# Altium footprint library Capacitors SMD.PcbLib: 115 footprints (part 7 of 8)
Each footprint in its own frame and in the unit in brackets; x right, y up, seen from the top. Pads: shape width x height; smd on the part's side, far side on the other; paste and mask are expansions set on the pad; w line width, h text height; cw(c..) or ccw(c..) is an arc to the next point about the centre after c.
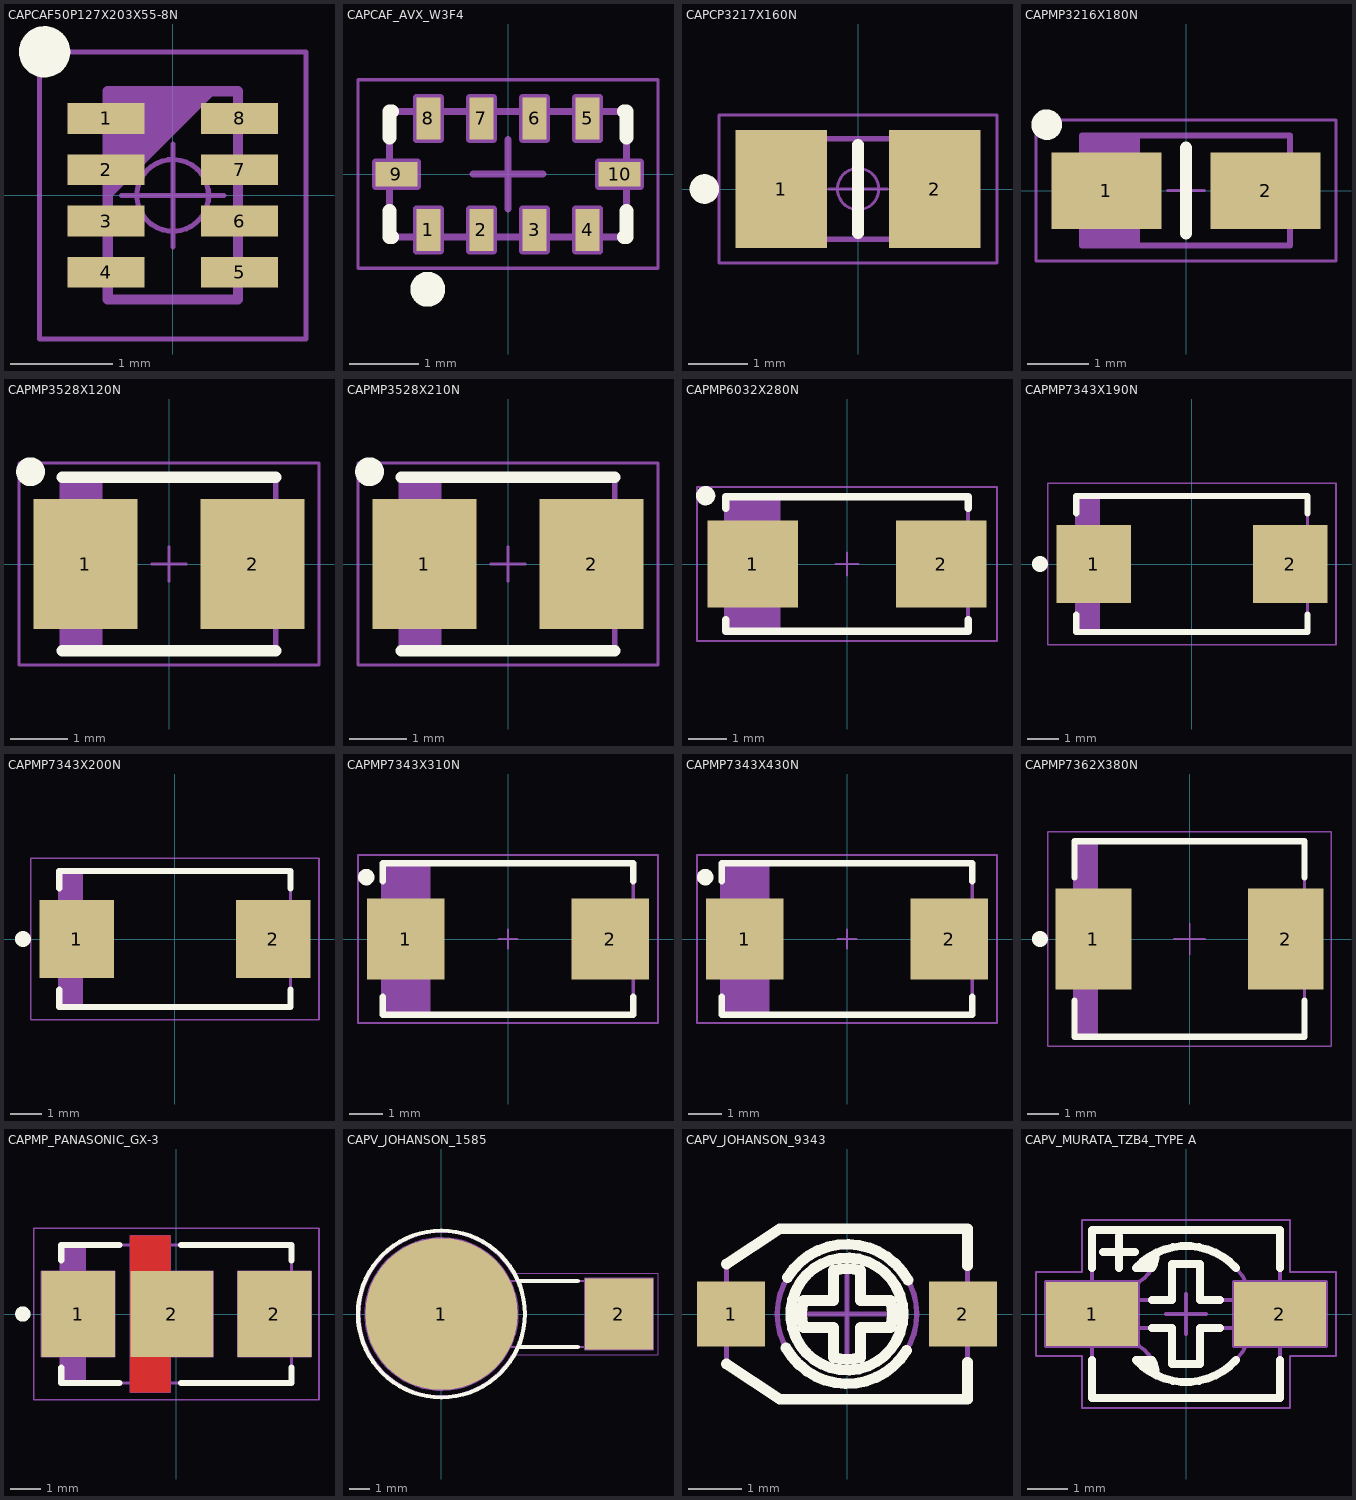
[diagram p6: the footprints below, top view; thin cyan lines are the x and y axes]

## CAPCAF50P127X203X55-8N [mm] "Capacitor, Non-Polarized, Chip Array, 0.50mm Pitch;8 pin,1.27mm W X 2.03mm L X 0.55mm H"
height 0.95
pads (8):
  rect 0.75x0.3 smd: 1(-0.65,0.75) 2(-0.65,0.25) 3(-0.65,-0.25) 4(-0.65,-0.75) 5(0.65,-0.75) 6(0.65,-0.25) 7(0.65,0.25) 8(0.65,0.75)
Top Overlay:
  circle w0.25: c-1.25,1.4 r0.125
Mechanical 14:
  lines w0.1: -0.635,0.015 0.365,1.015 ; -0.635,0.115 0.265,1.015 ; -0.635,0.215 0.165,1.015 ; -0.635,0.315 0.065,1.015 ; -0.635,0.415 -0.035,1.015 ; -0.635,0.515 -0.135,1.015 ; -0.635,0.615 -0.235,1.015 ; -0.635,0.715 -0.335,1.015 ; -0.635,0.815 -0.435,1.015 ; -0.635,0.915 -0.535,1.015 ; -0.635,-1.015 -0.635,1.015 0.635,1.015 0.635,-1.015 -0.635,-1.015
Mechanical 15:
  circle w0.05: c0,0 r0.35
  lines w0.05: -0.5,0 0.5,0 ; 0,-0.5 0,0.5 ; -1.3,-1.4 -1.3,1.4 1.3,1.4 1.3,-1.4 -1.3,-1.4
3D body "CAPCAF50P127X203X55-8N.stp": height 0.55, standoff 0, extent -0.635,-1.015 0.635,1.015

## CAPCAF_AVX_W3F4 [mm] "Feedthru Filter, Body 3.25 x 1.6 x 1.22mm, AVX W2F4 Serie"
height 1.22
pads (10):
  rect 0.35x0.6 smd: 1(-1.14,-0.8) 2(-0.38,-0.8) 3(0.38,-0.8) 4(1.14,-0.8) 5(1.14,0.8) 6(0.38,0.8) 7(-0.38,0.8) 8(-1.14,0.8)
  rect 0.6x0.35 smd: 9(-1.6,0) 10(1.6,0)
Top Overlay:
  circle w0.25: c-1.15,-1.65 r0.125
  lines w0.2: -1.7,-0.525 -1.7,-0.9 -1.665,-0.9 ; -1.7,0.525 -1.7,0.9 -1.665,0.9 ; 1.665,-0.9 1.7,-0.9 1.7,-0.525 ; 1.665,0.9 1.7,0.9 1.7,0.525
Mechanical 8:
  lines w0.1: -0.5,0 0,0 ; 0,-0.5 0,0 ; 0,0.5 0,0 ; 0.5,0 0,0 ; -1.9,-0.175 -1.6,0 -1.9,0.175 ; -1.9,-0.175 -1.3,-0.175 -1.3,0.175 -1.9,0.175 ; -1.9,-0.175 -1.9,0.175 ; -1.315,-1.1 -1.14,-0.8 -0.965,-1.1 ; -1.315,-1.1 -1.315,-0.5 -0.965,-0.5 -0.965,-1.1 ; -1.315,-1.1 -0.965,-1.1 ; -1.315,1.1 -1.14,0.8 -0.965,1.1 ; -1.315,1.1 -1.315,0.5 -0.965,0.5 -0.965,1.1 ; -1.315,1.1 -0.965,1.1 ; -0.555,-1.1 -0.38,-0.8 -0.205,-1.1 ; -0.555,-1.1 -0.555,-0.5 -0.205,-0.5 -0.205,-1.1 ; -0.555,-1.1 -0.205,-1.1 ; -0.555,1.1 -0.38,0.8 -0.205,1.1 ; -0.555,1.1 -0.555,0.5 -0.205,0.5 -0.205,1.1 ; -0.555,1.1 -0.205,1.1 ; 0.205,-1.1 0.38,-0.8 0.555,-1.1 ; 0.205,-1.1 0.205,-0.5 0.555,-0.5 0.555,-1.1 ; 0.205,-1.1 0.555,-1.1 ; 0.205,1.1 0.38,0.8 0.555,1.1 ; 0.205,1.1 0.205,0.5 0.555,0.5 0.555,1.1 ; 0.205,1.1 0.555,1.1 ; 0.965,-1.1 1.14,-0.8 1.315,-1.1 ; 0.965,-1.1 0.965,-0.5 1.315,-0.5 1.315,-1.1 ; 0.965,-1.1 1.315,-1.1 ; 0.965,1.1 1.14,0.8 1.315,1.1 ; 0.965,1.1 0.965,0.5 1.315,0.5 1.315,1.1 ; 0.965,1.1 1.315,1.1 ; 1.9,-0.175 1.6,0 1.9,0.175 ; 1.9,-0.175 1.3,-0.175 1.3,0.175 1.9,0.175 ; 1.9,-0.175 1.9,0.175
Mechanical 14:
  lines w0.1: -1.7,-0.9 -1.7,0.9 1.7,0.9 1.7,-0.9 -1.7,-0.9
Mechanical 15:
  lines w0.05: -2.15,-1.35 2.15,-1.35 2.15,1.35 -2.15,1.35 -2.15,-1.35
3D body "CAPCAF_AVX_W3F4.stp": height 1.22, standoff 0, extent -1.645,-0.82 1.645,0.82

## CAPCP3217X160N [mm] "Chip Capacitor, Polarized, Body 3.2x1.6mm, IPC Medium Density"
height 1.6
pads (2):
  rect 1.55x2 smd: 1(-1.3,0) 2(1.3,0)
Top Overlay:
  circle w0.25: c-2.6,0 r0.125
  lines w0.2: 0,-0.75 0,0.75
Mechanical 14:
  lines w0.1: -1.5,-0.85 -1.5,0.85 ; -1.4,-0.85 -1.4,0.85 ; -1.3,-0.85 -1.3,0.85 ; -1.2,-0.85 -1.2,0.85 ; -1.1,-0.85 -1.1,0.85 ; -1,-0.85 -1,0.85 ; -0.9,-0.85 -0.9,0.85 ; -1.6,-0.85 1.6,-0.85 1.6,0.85 -1.6,0.85 ; -1.6,-0.85 -1.6,0.85 ; -1.6,-0.85 -1.6,0.85
Mechanical 15:
  circle w0.05: c0,0 r0.35
  lines w0.05: -0.5,0 0.5,0 ; 0,-0.5 0,0.5 ; -2.35,-1.25 2.35,-1.25 2.35,1.25 -2.35,1.25 -2.35,-1.25
3D body "CAPCP3217X160N.stp": height 1.6, standoff 0, extent -1.7,-1 1.5,1

## CAPMP3216X180N [mm] "Capacitor, Polarized, Molded  Body 3.2x1.6mm, IPC Medium Density"
height 1.8
pads (2):
  rect 1.8x1.25 smd: 1(-1.3,0) 2(1.3,0)
Top Overlay:
  circle w0.25: c-2.275,1.075 r0.125
  lines w0.2: 0,-0.7 0,0.7
Mechanical 14:
  lines w0.1: -1.625,-0.9 -1.625,0.9 ; -1.55,-0.9 -1.55,0.9 ; -1.475,-0.9 -1.475,0.9 ; -1.4,-0.9 -1.4,0.9 ; -1.325,-0.9 -1.325,0.9 ; -1.25,-0.9 -1.25,0.9 ; -1.175,-0.9 -1.175,0.9 ; -1.1,-0.9 -1.1,0.9 ; -1.025,-0.9 -1.025,0.9 ; -0.95,-0.9 -0.95,0.9 ; -0.875,-0.9 -0.875,0.9 ; -1.7,-0.9 -1.7,0.9 1.7,0.9 1.7,-0.9 -1.7,-0.9 ; -0.8,-0.9 -0.8,0.9 -0.8,-0.9
Mechanical 15:
  lines w0.05: -0.3,0 0.3,0 ; 0,-0.3 0,0.3 ; -2.45,-1.15 2.45,-1.15 2.45,1.15 -2.45,1.15 -2.45,-1.15
3D body "CAPMP3216X180N.stp": height 1.6, standoff 0, extent -1.7,-0.9 1.7,0.9

## CAPMP3528X120N [mm] "Capacitor, Polarized, Molded  Body 3.5x2.8mm, IPC Medium Density"
height 1.2
pads (2):
  rect 1.8x2.25 smd: 1(-1.45,0) 2(1.45,0)
Top Overlay:
  circle w0.25: c-2.4,1.6 r0.125
  lines w0.2: -1.85,-1.5 1.85,-1.5 ; -1.85,1.5 1.85,1.5
Mechanical 14:
  lines w0.1: -1.8,-1.5 -1.8,1.5 ; -1.725,-1.5 -1.725,1.5 ; -1.65,-1.5 -1.65,1.5 ; -1.575,-1.5 -1.575,1.5 ; -1.5,-1.5 -1.5,1.5 ; -1.425,-1.5 -1.425,1.5 ; -1.35,-1.5 -1.35,1.5 ; -1.275,-1.5 -1.275,1.5 ; -1.2,-1.5 -1.2,1.5 ; -1.85,-1.5 -1.85,1.5 1.85,1.5 1.85,-1.5 -1.85,-1.5
Mechanical 15:
  lines w0.05: -0.3,0 0.3,0 ; 0,-0.3 0,0.3 ; -2.6,-1.75 2.6,-1.75 2.6,1.75 -2.6,1.75 -2.6,-1.75
3D body "CAPMP3528X120N.stp": height 1.2, standoff 0, extent -1.85,-1.5 1.85,1.5

## CAPMP3528X210N [mm] "Capacitor, Polarized, Molded  Body 3.5x2.8mm, IPC Medium Density"
height 2.1
pads (2):
  rect 1.8x2.25 smd: 1(-1.45,0) 2(1.45,0)
Top Overlay:
  circle w0.25: c-2.4,1.6 r0.125
  lines w0.2: -1.85,-1.5 1.85,-1.5 ; -1.85,1.5 1.85,1.5
Mechanical 14:
  lines w0.1: -1.8,-1.5 -1.8,1.5 ; -1.725,-1.5 -1.725,1.5 ; -1.65,-1.5 -1.65,1.5 ; -1.575,-1.5 -1.575,1.5 ; -1.5,-1.5 -1.5,1.5 ; -1.425,-1.5 -1.425,1.5 ; -1.35,-1.5 -1.35,1.5 ; -1.275,-1.5 -1.275,1.5 ; -1.2,-1.5 -1.2,1.5 ; -1.85,-1.5 1.85,-1.5 1.85,1.5 -1.85,1.5 -1.85,-1.5
Mechanical 15:
  lines w0.05: -0.3,0 0.3,0 ; 0,-0.3 0,0.3 ; -2.6,-1.75 -2.6,1.75 2.6,1.75 2.6,-1.75 -2.6,-1.75
3D body "CAPMP3528X210N.stp": height 2.1, standoff 0, extent -1.85,-1.5 1.85,1.5

## CAPMP6032X280N [mm] "Capacitor, Polarized, Molded  Body 6.0x3.2mm, IPC Medium Density"
height 2.8
pads (2):
  rect 2.35x2.25 smd: 1(-2.45,0) 2(2.45,0)
Top Overlay:
  circle w0.25: c-3.675,1.775 r0.125
  lines w0.2: -3.15,-1.45 -3.15,-1.75 3.15,-1.75 3.15,-1.45 ; -3.15,1.45 -3.15,1.75 3.15,1.75 3.15,1.45
Mechanical 14:
  lines w0.1: -3.05,-1.725 -3.05,1.75 ; -2.975,-1.725 -2.975,1.75 ; -2.9,-1.725 -2.9,1.75 ; -2.825,-1.725 -2.825,1.75 ; -2.75,-1.725 -2.75,1.75 ; -2.675,-1.725 -2.675,1.75 ; -2.6,-1.725 -2.6,1.75 ; -2.525,-1.725 -2.525,1.75 ; -2.45,-1.725 -2.45,1.75 ; -2.375,-1.725 -2.375,1.75 ; -2.3,-1.725 -2.3,1.75 ; -2.225,-1.725 -2.225,1.75 ; -2.15,-1.725 -2.15,1.75 ; -2.075,-1.725 -2.075,1.75 ; -2,-1.725 -2,1.75 ; -1.925,-1.725 -1.925,1.75 ; -1.85,-1.725 -1.85,1.75 ; -1.775,-1.725 -1.775,1.75 ; -3.15,-1.725 3.15,-1.725 3.15,1.75 -3.15,1.75 -3.15,-1.725
Mechanical 15:
  lines w0.05: -0.3,0 0.3,0 ; 0,-0.3 0,0.3 ; -3.9,-2 3.9,-2 3.9,2 -3.9,2 -3.9,-2
3D body "CAPMP6032X280N.stp": height 2.8, standoff 0, extent -3.15,-1.75 3.15,1.75

## CAPMP7343X190N [mm] "Capacitor, Polarized, Molded  Body 7.3x4.3mm, IPC Medium Density"
height 1.9
pads (2):
  rect 2.35x2.45 smd: 1(-3.1,0) 2(3.1,0)
Top Overlay:
  circle w0.25: c-4.8,0 r0.125
  lines w0.2: -3.65,-1.6 -3.65,-2.15 3.65,-2.15 3.65,-1.6 ; -3.65,1.6 -3.65,2.15 3.65,2.15 3.65,1.6
Mechanical 14:
  lines w0.1: -3.55,-2.15 -3.55,2.15 ; -3.45,-2.15 -3.45,2.15 ; -3.35,-2.15 -3.35,2.15 ; -3.25,-2.15 -3.25,2.15 ; -3.15,-2.15 -3.15,2.15 ; -3.05,-2.15 -3.05,2.15 ; -2.95,-2.15 -2.95,2.15 ; -3.65,-2.15 3.65,-2.15 3.65,2.15 -3.65,2.15 ; -3.65,-2.15 -3.65,2.15 ; -3.65,-2.15 -3.65,2.15
Mechanical 15:
  lines w0.05: -4.55,-2.55 4.55,-2.55 4.55,2.55 -4.55,2.55 -4.55,-2.55
3D body "CAPMP7343X190N.stp": height 1.9, standoff 0, extent -3.8,-2.3 3.8,2.3

## CAPMP7343X200N [mm] "Capacitor, Polarized, Molded  Body 7.3x4.3mm, IPC Medium Density"
height 2
pads (2):
  rect 2.35x2.45 smd: 1(-3.1,0) 2(3.1,0)
Top Overlay:
  circle w0.25: c-4.8,0 r0.125
  lines w0.2: -3.65,-1.6 -3.65,-2.15 3.65,-2.15 3.65,-1.6 ; -3.65,1.6 -3.65,2.15 3.65,2.15 3.65,1.6
Mechanical 14:
  lines w0.1: -3.55,-2.15 -3.55,2.15 ; -3.45,-2.15 -3.45,2.15 ; -3.35,-2.15 -3.35,2.15 ; -3.25,-2.15 -3.25,2.15 ; -3.15,-2.15 -3.15,2.15 ; -3.05,-2.15 -3.05,2.15 ; -2.95,-2.15 -2.95,2.15 ; -3.65,-2.15 -3.65,2.15 ; -3.65,-2.15 -3.65,2.15 ; -3.65,-2.15 3.65,-2.15 3.65,2.15 -3.65,2.15
Mechanical 15:
  lines w0.05: -4.55,-2.55 -4.55,2.55 4.55,2.55 4.55,-2.55 -4.55,-2.55
3D body "CAPMP7343X200N.stp": height 2, standoff 0, extent -3.8,-2.3 3.8,2.3

## CAPMP7343X310N [mm] "Capacitor, Polarized, Molded  Body 7.3x4.3mm, IPC Medium Density"
height 3.1
pads (2):
  rect 2.35x2.45 smd: 1(-3.1,0) 2(3.1,0)
Top Overlay:
  circle w0.25: c-4.3,1.875 r0.125
  lines w0.2: -3.8,-1.75 -3.8,-2.3 3.8,-2.3 3.8,-1.75 ; -3.8,1.75 -3.8,2.3 3.8,2.3 3.8,1.75
Mechanical 14:
  lines w0.1: -3.75,-2.3 -3.75,2.3 ; -3.675,-2.3 -3.675,2.3 ; -3.6,-2.3 -3.6,2.3 ; -3.525,-2.3 -3.525,2.3 ; -3.45,-2.3 -3.45,2.3 ; -3.375,-2.3 -3.375,2.3 ; -3.3,-2.3 -3.3,2.3 ; -3.225,-2.3 -3.225,2.3 ; -3.15,-2.3 -3.15,2.3 ; -3.075,-2.3 -3.075,2.3 ; -3,-2.3 -3,2.3 ; -2.925,-2.3 -2.925,2.3 ; -2.85,-2.3 -2.85,2.3 ; -2.775,-2.3 -2.775,2.3 ; -2.7,-2.3 -2.7,2.3 ; -2.625,-2.3 -2.625,2.3 ; -2.55,-2.3 -2.55,2.3 ; -2.475,-2.3 -2.475,2.3 ; -2.4,-2.3 -2.4,2.3 ; -3.8,-2.3 3.8,-2.3 3.8,2.3 -3.8,2.3 -3.8,-2.3
Mechanical 15:
  lines w0.05: -0.3,0 0.3,0 ; 0,-0.3 0,0.3 ; -4.55,-2.55 4.55,-2.55 4.55,2.55 -4.55,2.55 -4.55,-2.55
3D body "CAPMP7343X310N.stp": height 3.1, standoff 0, extent -3.8,-2.3 3.8,2.3

## CAPMP7343X430N [mm] "Capacitor, Polarized, Molded  Body 7.3x4.3mm, IPC Medium Density"
height 4.3
pads (2):
  rect 2.35x2.45 smd: 1(-3.1,0) 2(3.1,0)
Top Overlay:
  circle w0.25: c-4.3,1.875 r0.125
  lines w0.2: -3.8,-1.75 -3.8,-2.3 3.8,-2.3 3.8,-1.75 ; -3.8,1.75 -3.8,2.3 3.8,2.3 3.8,1.75
Mechanical 14:
  lines w0.1: -3.7,-2.3 -3.7,2.3 ; -3.625,-2.3 -3.625,2.3 ; -3.55,-2.3 -3.55,2.3 ; -3.475,-2.3 -3.475,2.3 ; -3.4,-2.3 -3.4,2.3 ; -3.325,-2.3 -3.325,2.3 ; -3.25,-2.3 -3.25,2.3 ; -3.175,-2.3 -3.175,2.3 ; -3.1,-2.3 -3.1,2.3 ; -3.025,-2.3 -3.025,2.3 ; -2.95,-2.3 -2.95,2.3 ; -2.875,-2.3 -2.875,2.3 ; -2.8,-2.3 -2.8,2.3 ; -2.725,-2.3 -2.725,2.3 ; -2.65,-2.3 -2.65,2.3 ; -2.575,-2.3 -2.575,2.3 ; -2.5,-2.3 -2.5,2.3 ; -2.4,-2.3 -2.4,2.3 ; -3.8,-2.3 -3.8,2.3 3.8,2.3 3.8,-2.3 -3.8,-2.3
Mechanical 15:
  lines w0.05: -0.3,0 0.3,0 ; 0,-0.3 0,0.3 ; -4.55,-2.55 -4.55,2.55 4.55,2.55 4.55,-2.55 -4.55,-2.55
3D body "CAPMP7343X430N.stp": height 4.3, standoff 0, extent -3.8,-2.3 3.8,2.3

## CAPMP7362X380N [mm] "Molded Capacitor, 2-Leads, Body 7.3x6.2mm, IPC Medium Density"
height 3.8
pads (2):
  rect 2.4x3.2 smd: 1(-3.05,0) 2(3.05,0)
Top Overlay:
  circle w0.25: c-4.75,0 r0.125
  lines w0.2: -3.65,-1.95 -3.65,-3.1 3.65,-3.1 3.65,-1.95 ; -3.65,1.95 -3.65,3.1 3.65,3.1 3.65,1.95
Mechanical 14:
  lines w0.1: -3.55,-3.075 -3.55,3.075 ; -3.45,-3.075 -3.45,3.075 ; -3.35,-3.075 -3.35,3.075 ; -3.25,-3.075 -3.25,3.075 ; -3.15,-3.075 -3.15,3.075 ; -3.05,-3.075 -3.05,3.075 ; -2.95,-3.075 -2.95,3.075 ; -3.65,-3.075 3.65,-3.075 3.65,3.075 -3.65,3.075 ; -3.65,-3.075 -3.65,3.075 ; -3.65,-3.075 -3.65,3.075
Mechanical 15:
  lines w0.05: -0.5,0 0.5,0 ; 0,-0.5 0,0.5 ; -4.5,-3.4 4.5,-3.4 4.5,3.4 -4.5,3.4 -4.5,-3.4
3D body "CAPMP7362X380N.stp": height 3.8, standoff 0, extent -3.75,-3.15 3.75,3.15

## CAPMP_PANASONIC_GX-3 [mm] "Capacitor, Polarized, Molded  Body 7.3x4.3mm, 3 Pins, Panasonic GX Series"
height 2
pads (3):
  rect 2.4x2.8 smd: 1(-3.2,0) 2(3.2,0)
  rect 2.7x2.8 smd: 2(-0.15,0)
Top Layer:
  region: -1.5,2.55 -0.2,2.55 -0.2,-2.55 -1.5,-2.55
Top Overlay:
  circle w0.25: c-5,0 r0.125
  lines w0.2: -3.75,-1.75 -3.75,-2.25 -1.85,-2.25 ; -3.75,1.75 -3.75,2.25 -1.85,2.25 ; 0.15,-2.25 3.75,-2.25 3.75,-1.75 ; 0.15,2.25 3.75,2.25 3.75,1.75
Mechanical 8:
  lines w0.05: -4.4,0 -4.4,1.4 ; -3.7,0 -3.2,0 ; -3.2,-0.5 -3.2,0 ; -3.2,0.5 -3.2,0 ; -2.7,0 -3.2,0 ; -0.5,0 0,0 ; 0,-0.5 0,0 ; 0,0.5 0,0 ; 0.5,0 0,0 ; 2.7,0 3.2,0 ; 3.2,-0.5 3.2,0 ; 3.2,0.5 3.2,0 ; 3.7,0 3.2,0 ; -4.4,1.4 -4.4,-1.4 -2,-1.4 -2,1.4 -4.4,1.4 ; -1.5,-2.55 -0.15,0 -1.5,2.55 ; -1.5,-2.55 -1.5,2.55 ; -1.5,-2.55 -0.2,-2.55 -0.2,-1.4 1.2,-1.4 1.2,1.4 -0.2,1.4 -0.2,2.55 -1.5,2.55 ; 2,-1.4 4.4,-1.4 4.4,1.4 2,1.4 2,-1.4
Mechanical 14:
  lines w0.1: -3.6,-2.25 -3.6,2.25 ; -3.5,-2.25 -3.5,2.25 ; -3.4,-2.25 -3.4,2.25 ; -3.3,-2.25 -3.3,2.25 ; -3.2,-2.25 -3.2,2.25 ; -3.1,-2.25 -3.1,2.25 ; -3,-2.25 -3,2.25 ; -3.75,-2.25 3.75,-2.25 3.75,2.25 -3.75,2.25 -3.75,-2.25 ; -3.7,-2.25 -3.7,2.25 -3.7,-2.25
Mechanical 15:
  lines w0.05: -4.65,-2.8 4.65,-2.8 4.65,2.8 -4.65,2.8 -4.65,-2.8
3D body "CAPMP_PANASONIC_GX-3.stp": height 2, standoff 0, extent -3.75,-2.25 3.75,2.25

## CAPV_JOHANSON_1585 [mm] "JOHANSON 1585, >8 Turn Trimmer Air Capacitor, Body D 7.11 x H 14.78mm"
height 14.78
pads (2):
  round 7.3 smd: 1(0,0)
  rect 3.25x3.4 smd: 2(8.509,0)
Top Overlay:
  circle w0.2: c0,0 r4
  lines w0.2: 3.671,-1.587 6.534,-1.587 ; 3.671,1.587 6.534,1.587
Mechanical 8:
  circle w0.1: c0,0 r3.65
  lines w0.1: -0.5,0 0,0 ; 0,-0.5 0,0 ; 0,0.5 0,0 ; 0.5,0 0,0 ; 8.009,0 8.509,0 ; 8.509,-0.5 8.509,0 ; 8.509,0.5 8.509,0 ; 9.009,0 8.509,0 ; 6.884,-1.7 6.884,1.7 10.134,1.7 10.134,-1.7 6.884,-1.7
Mechanical 14:
  circle w0.1: c0,0 r3.556
  circle w0.1: c0,0 r2.675
  circle w0.1: c0,0 r2.205
  lines w0.1: -1.813,1.247 1.247,-1.813 ; -1.247,1.813 1.813,-1.247 ; 3.182,-1.587 9.97,-1.587 9.97,1.587 3.182,1.587
Mechanical 15:
  lines w0.05: 3.377,-1.95 cw(c0,0) 3.377,1.95 10.384,1.95 10.384,-1.95 3.377,-1.95
3D body "CAPV_JOHANSON_1585.stp": height 14.48, standoff 0, extent -3.556,-3.554 9.97,3.554

## CAPV_JOHANSON_9343 [mil] "JOHANSON 9343 Serie, Single Turn Trimmer Capacitor, Body 4.49x3.175mm"
height 70.08
pads (2):
  rect 50x48 smd: 1(-85,0) 2(85,0)
Top Overlay:
  circle w7.87: c0,0 r41.23
  lines w7.87: -88.39,-36.67 -49.41,-62.5 88.39,-62.5 88.39,-35.43 ; -88.39,36.67 -49.41,62.5 88.39,62.5 88.39,35.43 ; -44.66,-25.01 ccw(c0,0) 43.62,-26.77 ; -43.62,26.77 cw(c0,0) 44.66,25.01 ; -31.87,-9.84 cw(c0,0) -31.87,9.84 -9.84,9.84 -9.84,31.87 cw(c0,0) 9.84,31.87 9.84,9.84 31.87,9.84 cw(c0,0) 31.87,-9.84 9.84,-9.84 9.84,-31.87 cw(c0,0) -9.84,-31.87 -9.84,-9.84 -31.87,-9.84
Mechanical 8:
  lines w3.94: -39.37,0 0,0 ; 0,-39.37 0,0 ; 0,39.37 0,0 ; 39.37,0 0,0
Mechanical 14:
  circle w3.94: c0,0 r41.23
  circle w3.94: c0,0 r51.18
  lines w3.94: -72.64,-15.5 -88.39,-15.5 -88.39,15.5 -72.64,15.5 ; -31.87,-9.84 -9.84,-9.84 -9.84,-31.87 ccw(c0,0) 9.84,-31.87 9.84,-9.84 31.87,-9.84 ; -31.87,9.84 -9.84,9.84 -9.84,31.87 cw(c0,0) 9.84,31.87 9.84,9.84 31.87,9.84 ; 72.64,-15.5 88.39,-15.5 88.39,15.5 72.64,15.5 ; 31.87,-9.84 ccw(c0,0) 31.87,9.84 ; 31.87,-9.84 ccw(c0,0) 31.87,9.84 ; -88.39,-36.67 -88.39,-19.69 -72.64,-19.69 -72.64,19.69 -88.39,19.69 -88.39,36.67 -49.41,62.5 88.39,62.5 88.39,19.69 72.64,19.69 72.64,-19.69 88.39,-19.69 88.39,-62.5 -49.41,-62.5 -88.39,-36.67
3D body "CAPV_JOHANSON_9343.stp": height 70, standoff 0, extent -88.38,-62.5 88.39,62.5

## CAPV_MURATA_TZB4_TYPE A [mm] "MURATA TZB4 Series, Ceramic Trimmer Capacitor, Body 4.5 x 4.2mm"
height 3.2
pads (2):
  rect 2.3x1.6 smd: 1(-2.35,0) 2(2.35,0)
Top Overlay:
  lines w0.2: -2.35,-1.15 -2.35,-2.1 2.35,-2.1 2.35,-1.15 ; -2.35,1.15 -2.35,2.1 2.35,2.1 2.35,1.15 ; -2.077,1.55 -1.277,1.55 ; -1.677,1.15 -1.677,1.95 ; -1.152,-1.25 -0.804,-1.25 ; -1.152,1.25 -0.804,1.25 ; -1.033,-1.35 -0.775,-1.35 ; -1.033,1.35 -0.775,1.35 ; -0.887,-1.45 -0.759,-1.45 ; -0.887,1.45 -0.759,1.45 ; -0.85,-0.35 -0.35,-0.35 -0.35,-1.25 0.35,-1.25 0.35,-0.35 0.85,-0.35 ; -0.85,0.35 -0.35,0.35 -0.35,1.25 0.35,1.25 0.35,0.35 0.85,0.35 ; -0.754,-1.523 ccw(c-1.615,-1.539) -0.847,-1.15 -1.252,-1.15 ccw(c0,0) 1.252,-1.15 ; -0.754,1.523 cw(c-1.615,1.539) -0.847,1.15 -1.252,1.15 cw(c0,0) 1.252,1.15
Mechanical 8:
  lines w0.1: -2.85,0 -2.35,0 ; -2.35,-0.5 -2.35,0 ; -2.35,0.5 -2.35,0 ; -1.85,0 -2.35,0 ; -0.5,0 0,0 ; 0,-0.5 0,0 ; 0,0.5 0,0 ; 0.5,0 0,0 ; 1.85,0 2.35,0 ; 2.35,-0.5 2.35,0 ; 2.35,0.5 2.35,0 ; 2.85,0 2.35,0 ; -3.5,-0.8 -1.2,-0.8 -1.2,0.8 -3.5,0.8 -3.5,-0.8 ; 1.2,-0.8 3.5,-0.8 3.5,0.8 1.2,0.8 1.2,-0.8
Mechanical 14:
  lines w0.1: -2.077,1.55 -1.277,1.55 ; -1.677,1.15 -1.677,1.95 ; -2.35,-2.1 2.35,-2.1 2.35,2.1 -2.35,2.1 -2.35,-2.1 ; -1.558,-0.681 cw(c0.062,0) -1.558,0.681 ccw(c-1.615,1.539) -0.754,1.523 cw(c0,0) -0.754,-1.523 ccw(c-1.615,-1.539) -1.558,-0.681 ; -1.25,-0.35 -0.35,-0.35 -0.35,-1.25 0.35,-1.25 0.35,-0.35 1.25,-0.35 1.25,0.35 0.35,0.35 0.35,1.25 -0.35,1.25 -0.35,0.35 -1.25,0.35 -1.25,-0.35
Mechanical 15:
  lines w0.05: -3.75,-1.05 -2.6,-1.05 -2.6,-2.35 2.6,-2.35 2.6,-1.05 3.75,-1.05 3.75,1.05 2.6,1.05 2.6,2.35 -2.6,2.35 -2.6,1.05 -3.75,1.05 -3.75,-1.05
3D body "CAPV_MURATA_TZB4_TYPE A.stp": height 3.2, standoff 0, extent -2.5,-2.1 2.5,2.1